# EAGLE library part TR_NMOS_NX3020 (library akita)
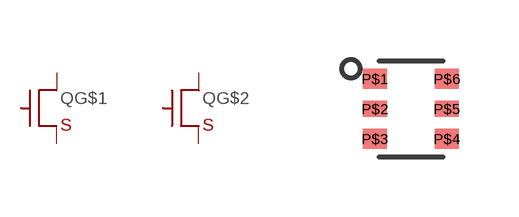
[diagram p94: symbol with the pads of SOT363; footprint SOT363]

Designator prefix Q; gates G$1=TR_NMOS G$2=TR_NMOS

## TR_NMOS_NX3020  [SOT363]
P$1  G$1:S
P$2  G$1:G
P$3  G$2:D
P$4  G$2:S
P$5  G$2:G
P$6  G$1:D

## Footprint SOT363 (pad centres in mm)
SOT363
smd 0.6 x 0.5: P$1 -0.9,0.75; P$3 -0.9,-0.75; P$4 0.9,-0.75; P$6 0.9,0.75
smd 0.6 x 0.4: P$2 -0.9,0; P$5 0.9,0